# EAGLE library part 74AHC126D,118 (library SamacSys_Parts)
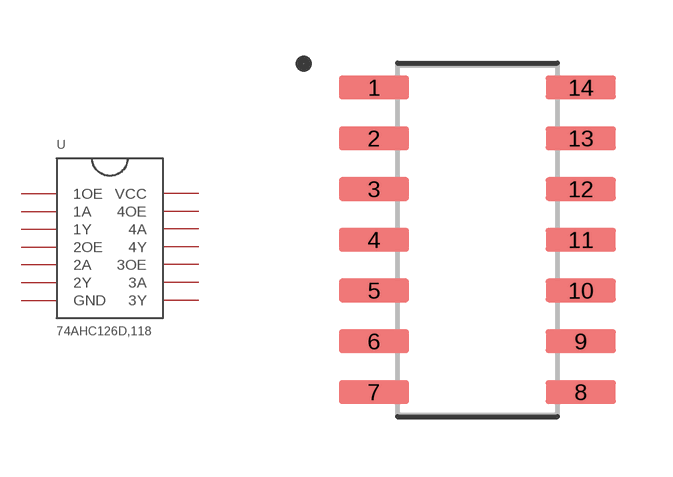
[diagram p2: symbol with the pads of SOIC127P600X175-14N; footprint SOIC127P600X175-14N]

Designator prefix -

## 74AHC126D,118  [SOIC127P600X175-14N]
1  1OE
2  1A
3  1Y
4  2OE
5  2A
6  2Y
7  GND
8  3Y
9  3A
10  3OE
11  4Y
12  4A
13  4OE
14  VCC

## Footprint SOIC127P600X175-14N (pad centres in mm)
smd 1.75 x 0.59: 1 -2.585,3.81; 2 -2.585,2.54; 3 -2.585,1.27; 4 -2.585,0; 5 -2.585,-1.27; 6 -2.585,-2.54; 7 -2.585,-3.81; 8 2.585,-3.81; 9 2.585,-2.54; 10 2.585,-1.27; 11 2.585,0; 12 2.585,1.27; 13 2.585,2.54; 14 2.585,3.81